# Altium integrated library TI Data Converters Analog to Digital Converter.IntLib: 2198 symbols (part 86 of 164)
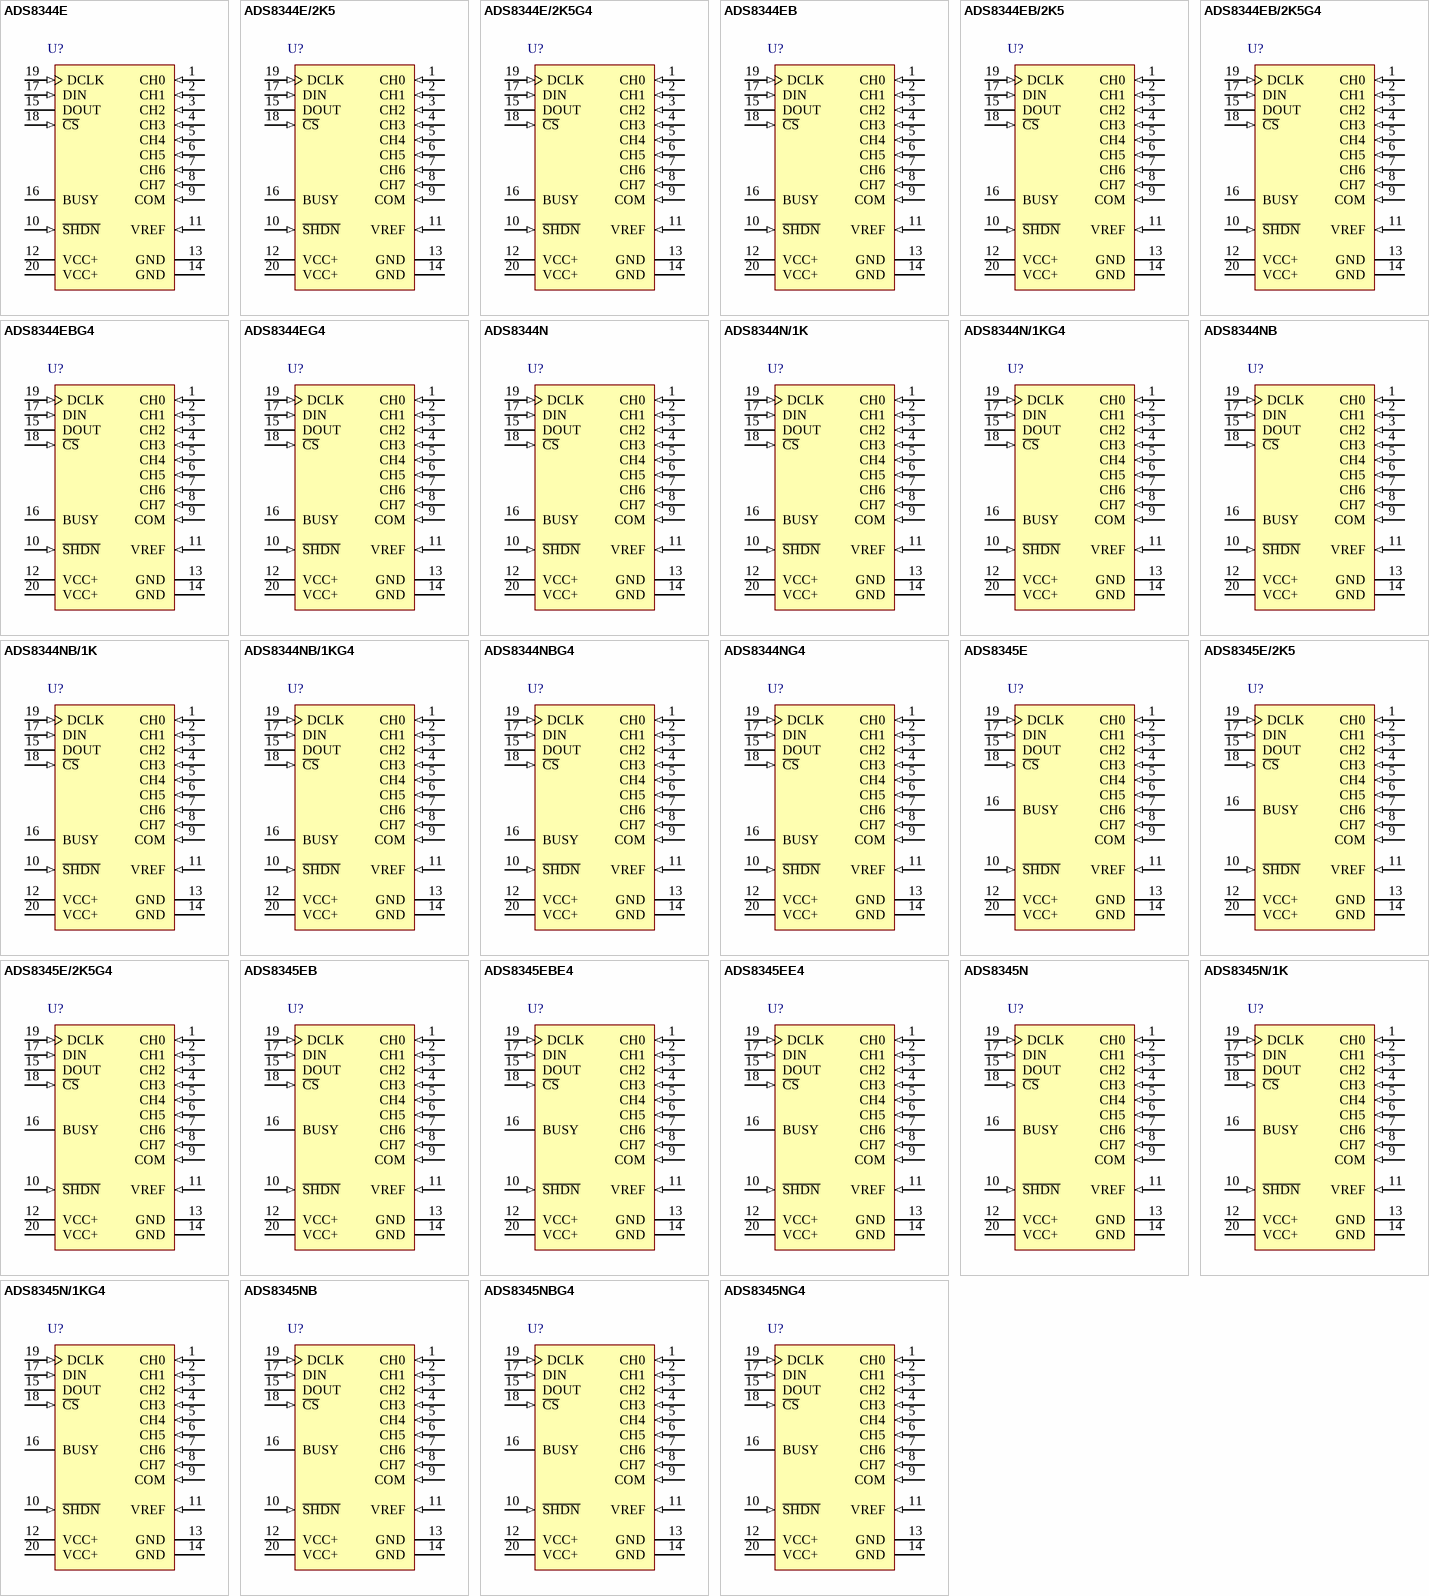
[diagram p211: symbols ADS8344E to ADS8345NG4]

## ADS8344EBG4
designator U?
16-Bit, 8-Channel Serial Output Sampling ADC, -40 to 85 degC, 20-pin SOP (DBQ20), Green (RoHS & no Sb/Br); Manufacturer: Texas Instruments; PartNumber: ADS8344EBG4; # Input Channels: 8; Analog Voltage AV/DD(Max)(V): 5.25; Analog Voltage AV/DD(Min)(V): 2.7; Architecture: SAR; INL(Max)(+/-LSB): 6; Interface: Serial SPI; Resolution(Bits): 16; Sample Rate (max)(SPS): 100k; SFDR(dB): 92; SINAD(dB): 86; SubFamily: Precision ADC (<=10MSPS); DatasheetVersion: SBAS139E; PackageVersion: 4073301-3/H, 10/2008; PackageReference: DBQ20; PackageDescription: 20-Pin Plastic Small Outline, Body 8.65 x 3.9 mm, Pitch 0.635 mm; Supplier 1: Digi-Key; Supplier Part Number 1: ADS7822UCG4-ND; Digital Supply(Max)(V): 5.25; Digital Supply(Min)(V): 2.7; Eco-Plan: Green (RoHS & no Sb/Br); Mounting Technology: Surface Mount; Code_JEDEC: MO-137; ComponentLink1Description: Manufacturer URL; ComponentLink1URL: http://www.ti.com/; ComponentLink2Description: Datasheet; ComponentLink2URL: http://www.ti.com/general/docs/lit/getliterature.tsp?genericPartNumber=ADS8344&fileType=pdf; ComponentLink3Description: Package Specification; ComponentLink3URL: http://www.ti.com/litv/pdf/mpds210a
footprint TI-DBQ20_N (SOP, 20-Leads, Body 8.65x3.9mm, Pitch 0.635mm, IPC Medium Density)
footprint TI-DBQ20_L (SOP, 20-Leads, Body 8.65x3.9mm, Pitch 0.635mm, IPC High Density)
footprint TI-DBQ20_M (SOP, 20-Leads, Body 8.65x3.9mm, Pitch 0.635mm, IPC Low Density)
pins: 1 CH0 (in) "Analog Input Channel 0", 2 CH1 (in) "Analog Input Channel 1", 3 CH2 (in) "Analog Input Channel 2", 4 CH3 (in) "Analog Input Channel 3", 5 CH4 (in) "Analog Input Channel 4", 6 CH5 (in) "Analog Input Channel 5", 7 CH6 (in) "Analog Input Channel 6", 8 CH7 (in) "Analog Input Channel 7", 9 COM (in) "Ground reference for analog inputs. Sets zero code voltage in single-ended mode. Connect this pin to ground or ground reference point.", 10 ~{SHDN} (in) "Shutdown. When LOW, the device enters a very low-power shutdown mode.", 11 VREF (in) "Voltage Reference Input. See Electrical Characteristics Table for ranges.", 12 VCC+ (power) "Power Supply, 2.7V to 5V", 13 GND (power) "Ground", 14 GND (power) "Ground", 15 DOUT (hiz) "Serial Data Output. Data is shifted on the falling edge of DCLK. This output is high impedance when C\S\ is HIGH.", 16 BUSY (hiz) "Busy Output. Busy goes LOW when the DIN control bits are being read and also when the device is converting. The Output is high impedance when C\S\ is HIGH.", 17 DIN (in) "Serial Data Input. If C\S\ is LOW, data is latched on rising edge of DCLK.", 18 ~{CS} (in) "Chip Select Input. Active LOW. Data will not be clocked into DIN unless C\S\ is LOW. When C\S\ is HIGH, DOUT is high impedance.", 19 DCLK (in) "External Clock Input. The clock speed determines the conversion rate by the equation fDCLK = 24 • fSAMPLE.", 20 VCC+ (power) "Power Supply"

## ADS8344EG4
designator U?
16-Bit, 8-Channel Serial Output Sampling ADC, -40 to 85 degC, 20-pin SOP (DBQ20), Green (RoHS & no Sb/Br); Manufacturer: Texas Instruments; PartNumber: ADS8344EG4; # Input Channels: 8; Analog Voltage AV/DD(Max)(V): 5.25; Analog Voltage AV/DD(Min)(V): 2.7; Architecture: SAR; INL(Max)(+/-LSB): 6; Interface: Serial SPI; Resolution(Bits): 16; Sample Rate (max)(SPS): 100k; SFDR(dB): 92; SINAD(dB): 86; SubFamily: Precision ADC (<=10MSPS); DatasheetVersion: SBAS139E; PackageVersion: 4073301-3/H, 10/2008; PackageReference: DBQ20; PackageDescription: 20-Pin Plastic Small Outline, Body 8.65 x 3.9 mm, Pitch 0.635 mm; Supplier 1: Digi-Key; Supplier Part Number 1: ADS7822UG4-ND; Digital Supply(Max)(V): 5.25; Digital Supply(Min)(V): 2.7; Eco-Plan: Green (RoHS & no Sb/Br); Mounting Technology: Surface Mount; Code_JEDEC: MO-137; ComponentLink1Description: Manufacturer URL; ComponentLink1URL: http://www.ti.com/; ComponentLink2Description: Datasheet; ComponentLink2URL: http://www.ti.com/general/docs/lit/getliterature.tsp?genericPartNumber=ADS8344&fileType=pdf; ComponentLink3Description: Package Specification; ComponentLink3URL: http://www.ti.com/litv/pdf/mpds210a
footprint TI-DBQ20_N (SOP, 20-Leads, Body 8.65x3.9mm, Pitch 0.635mm, IPC Medium Density)
footprint TI-DBQ20_L (SOP, 20-Leads, Body 8.65x3.9mm, Pitch 0.635mm, IPC High Density)
footprint TI-DBQ20_M (SOP, 20-Leads, Body 8.65x3.9mm, Pitch 0.635mm, IPC Low Density)
pins: 1 CH0 (in) "Analog Input Channel 0", 2 CH1 (in) "Analog Input Channel 1", 3 CH2 (in) "Analog Input Channel 2", 4 CH3 (in) "Analog Input Channel 3", 5 CH4 (in) "Analog Input Channel 4", 6 CH5 (in) "Analog Input Channel 5", 7 CH6 (in) "Analog Input Channel 6", 8 CH7 (in) "Analog Input Channel 7", 9 COM (in) "Ground reference for analog inputs. Sets zero code voltage in single-ended mode. Connect this pin to ground or ground reference point.", 10 ~{SHDN} (in) "Shutdown. When LOW, the device enters a very low-power shutdown mode.", 11 VREF (in) "Voltage Reference Input. See Electrical Characteristics Table for ranges.", 12 VCC+ (power) "Power Supply, 2.7V to 5V", 13 GND (power) "Ground", 14 GND (power) "Ground", 15 DOUT (hiz) "Serial Data Output. Data is shifted on the falling edge of DCLK. This output is high impedance when C\S\ is HIGH.", 16 BUSY (hiz) "Busy Output. Busy goes LOW when the DIN control bits are being read and also when the device is converting. The Output is high impedance when C\S\ is HIGH.", 17 DIN (in) "Serial Data Input. If C\S\ is LOW, data is latched on rising edge of DCLK.", 18 ~{CS} (in) "Chip Select Input. Active LOW. Data will not be clocked into DIN unless C\S\ is LOW. When C\S\ is HIGH, DOUT is high impedance.", 19 DCLK (in) "External Clock Input. The clock speed determines the conversion rate by the equation fDCLK = 24 • fSAMPLE.", 20 VCC+ (power) "Power Supply"

## ADS8344N
designator U?
16-Bit, 8-Channel Serial Output Sampling ADC, -40 to 85 degC, 20-pin SOP (DB20), Green (RoHS & no Sb/Br); Manufacturer: Texas Instruments; PartNumber: ADS8344N; # Input Channels: 8; Analog Voltage AV/DD(Max)(V): 5.25; Analog Voltage AV/DD(Min)(V): 2.7; Architecture: SAR; INL(Max)(+/-LSB): 6; Interface: Serial SPI; Resolution(Bits): 16; Sample Rate (max)(SPS): 100k; SFDR(dB): 92; SINAD(dB): 86; SubFamily: Precision ADC (<=10MSPS); DatasheetVersion: SBAS139E; PackageVersion: 4040065/E, 12/2001; PackageReference: DB20; PackageDescription: 20-Pin Plastic Small Outline, Body 5.3 x 7.2 mm, Pitch 0.65 mm; Supplier 1: Digi-Key; Supplier Part Number 1: ADS7817ETR-ND; Digital Supply(Max)(V): 5.25; Digital Supply(Min)(V): 2.7; Eco-Plan: Green (RoHS & no Sb/Br); Mounting Technology: Surface Mount; Code_JEDEC: MO-150; ComponentLink1Description: Manufacturer URL; ComponentLink1URL: http://www.ti.com/; ComponentLink2Description: Datasheet; ComponentLink2URL: http://www.ti.com/general/docs/lit/getliterature.tsp?genericPartNumber=ADS8344&fileType=pdf; ComponentLink3Description: Package Specification; ComponentLink3URL: http://www.ti.com/lit/ml/msso002e/msso002e.pdf
footprint TI-DB20_N (SOP, 20-Leads, Body 7.2x5.3mm, Pitch 0.65mm, IPC Medium Density)
footprint TI-DB20_L (SOP, 20-Leads, Body 7.2x5.3mm, Pitch 0.65mm, IPC High Density)
footprint TI-DB20_M (SOP, 20-Leads, Body 7.2x5.3mm, Pitch 0.65mm, IPC Low Density)
pins: 1 CH0 (in) "Analog Input Channel 0", 2 CH1 (in) "Analog Input Channel 1", 3 CH2 (in) "Analog Input Channel 2", 4 CH3 (in) "Analog Input Channel 3", 5 CH4 (in) "Analog Input Channel 4", 6 CH5 (in) "Analog Input Channel 5", 7 CH6 (in) "Analog Input Channel 6", 8 CH7 (in) "Analog Input Channel 7", 9 COM (in) "Ground reference for analog inputs. Sets zero code voltage in single-ended mode. Connect this pin to ground or ground reference point.", 10 ~{SHDN} (in) "Shutdown. When LOW, the device enters a very low-power shutdown mode.", 11 VREF (in) "Voltage Reference Input. See Electrical Characteristics Table for ranges.", 12 VCC+ (power) "Power Supply, 2.7V to 5V", 13 GND (power) "Ground", 14 GND (power) "Ground", 15 DOUT (hiz) "Serial Data Output. Data is shifted on the falling edge of DCLK. This output is high impedance when C\S\ is HIGH.", 16 BUSY (hiz) "Busy Output. Busy goes LOW when the DIN control bits are being read and also when the device is converting. The Output is high impedance when C\S\ is HIGH.", 17 DIN (in) "Serial Data Input. If C\S\ is LOW, data is latched on rising edge of DCLK.", 18 ~{CS} (in) "Chip Select Input. Active LOW. Data will not be clocked into DIN unless C\S\ is LOW. When C\S\ is HIGH, DOUT is high impedance.", 19 DCLK (in) "External Clock Input. The clock speed determines the conversion rate by the equation fDCLK = 24 • fSAMPLE.", 20 VCC+ (power) "Power Supply"

## ADS8344N/1K
designator U?
16-Bit, 8-Channel Serial Output Sampling ADC, -40 to 85 degC, 20-pin SOP (DB20), Green (RoHS & no Sb/Br); Manufacturer: Texas Instruments; PartNumber: ADS8344N/1K; # Input Channels: 8; Analog Voltage AV/DD(Max)(V): 5.25; Analog Voltage AV/DD(Min)(V): 2.7; Architecture: SAR; INL(Max)(+/-LSB): 6; Interface: Serial SPI; Resolution(Bits): 16; Sample Rate (max)(SPS): 100k; SFDR(dB): 92; SINAD(dB): 86; SubFamily: Precision ADC (<=10MSPS); DatasheetVersion: SBAS139E; PackageVersion: 4040065/E, 12/2001; PackageReference: DB20; PackageDescription: 20-Pin Plastic Small Outline, Body 5.3 x 7.2 mm, Pitch 0.65 mm; Supplier 1: Digi-Key; Supplier Part Number 1: ADS7817E/250G4-ND; Digital Supply(Max)(V): 5.25; Digital Supply(Min)(V): 2.7; Eco-Plan: Green (RoHS & no Sb/Br); Mounting Technology: Surface Mount; Code_JEDEC: MO-150; ComponentLink1Description: Manufacturer URL; ComponentLink1URL: http://www.ti.com/; ComponentLink2Description: Datasheet; ComponentLink2URL: http://www.ti.com/general/docs/lit/getliterature.tsp?genericPartNumber=ADS8344&fileType=pdf; ComponentLink3Description: Package Specification; ComponentLink3URL: http://www.ti.com/lit/ml/msso002e/msso002e.pdf
footprint TI-DB20_N (SOP, 20-Leads, Body 7.2x5.3mm, Pitch 0.65mm, IPC Medium Density)
footprint TI-DB20_L (SOP, 20-Leads, Body 7.2x5.3mm, Pitch 0.65mm, IPC High Density)
footprint TI-DB20_M (SOP, 20-Leads, Body 7.2x5.3mm, Pitch 0.65mm, IPC Low Density)
pins: 1 CH0 (in) "Analog Input Channel 0", 2 CH1 (in) "Analog Input Channel 1", 3 CH2 (in) "Analog Input Channel 2", 4 CH3 (in) "Analog Input Channel 3", 5 CH4 (in) "Analog Input Channel 4", 6 CH5 (in) "Analog Input Channel 5", 7 CH6 (in) "Analog Input Channel 6", 8 CH7 (in) "Analog Input Channel 7", 9 COM (in) "Ground reference for analog inputs. Sets zero code voltage in single-ended mode. Connect this pin to ground or ground reference point.", 10 ~{SHDN} (in) "Shutdown. When LOW, the device enters a very low-power shutdown mode.", 11 VREF (in) "Voltage Reference Input. See Electrical Characteristics Table for ranges.", 12 VCC+ (power) "Power Supply, 2.7V to 5V", 13 GND (power) "Ground", 14 GND (power) "Ground", 15 DOUT (hiz) "Serial Data Output. Data is shifted on the falling edge of DCLK. This output is high impedance when C\S\ is HIGH.", 16 BUSY (hiz) "Busy Output. Busy goes LOW when the DIN control bits are being read and also when the device is converting. The Output is high impedance when C\S\ is HIGH.", 17 DIN (in) "Serial Data Input. If C\S\ is LOW, data is latched on rising edge of DCLK.", 18 ~{CS} (in) "Chip Select Input. Active LOW. Data will not be clocked into DIN unless C\S\ is LOW. When C\S\ is HIGH, DOUT is high impedance.", 19 DCLK (in) "External Clock Input. The clock speed determines the conversion rate by the equation fDCLK = 24 • fSAMPLE.", 20 VCC+ (power) "Power Supply"

## ADS8344N/1KG4
designator U?
16-Bit, 8-Channel Serial Output Sampling ADC, -40 to 85 degC, 20-pin SOP (DB20), Green (RoHS & no Sb/Br); Manufacturer: Texas Instruments; PartNumber: ADS8344N/1KG4; # Input Channels: 8; Analog Voltage AV/DD(Max)(V): 5.25; Analog Voltage AV/DD(Min)(V): 2.7; Architecture: SAR; INL(Max)(+/-LSB): 6; Interface: Serial SPI; Resolution(Bits): 16; Sample Rate (max)(SPS): 100k; SFDR(dB): 92; SINAD(dB): 86; SubFamily: Precision ADC (<=10MSPS); DatasheetVersion: SBAS139E; PackageVersion: 4040065/E, 12/2001; PackageReference: DB20; PackageDescription: 20-Pin Plastic Small Outline, Body 5.3 x 7.2 mm, Pitch 0.65 mm; Supplier 1: Digi-Key; Supplier Part Number 1: ADS7817E/2K5-ND; Digital Supply(Max)(V): 5.25; Digital Supply(Min)(V): 2.7; Eco-Plan: Green (RoHS & no Sb/Br); Mounting Technology: Surface Mount; Code_JEDEC: MO-150; ComponentLink1Description: Manufacturer URL; ComponentLink1URL: http://www.ti.com/; ComponentLink2Description: Datasheet; ComponentLink2URL: http://www.ti.com/general/docs/lit/getliterature.tsp?genericPartNumber=ADS8344&fileType=pdf; ComponentLink3Description: Package Specification; ComponentLink3URL: http://www.ti.com/lit/ml/msso002e/msso002e.pdf
footprint TI-DB20_N (SOP, 20-Leads, Body 7.2x5.3mm, Pitch 0.65mm, IPC Medium Density)
footprint TI-DB20_L (SOP, 20-Leads, Body 7.2x5.3mm, Pitch 0.65mm, IPC High Density)
footprint TI-DB20_M (SOP, 20-Leads, Body 7.2x5.3mm, Pitch 0.65mm, IPC Low Density)
pins: 1 CH0 (in) "Analog Input Channel 0", 2 CH1 (in) "Analog Input Channel 1", 3 CH2 (in) "Analog Input Channel 2", 4 CH3 (in) "Analog Input Channel 3", 5 CH4 (in) "Analog Input Channel 4", 6 CH5 (in) "Analog Input Channel 5", 7 CH6 (in) "Analog Input Channel 6", 8 CH7 (in) "Analog Input Channel 7", 9 COM (in) "Ground reference for analog inputs. Sets zero code voltage in single-ended mode. Connect this pin to ground or ground reference point.", 10 ~{SHDN} (in) "Shutdown. When LOW, the device enters a very low-power shutdown mode.", 11 VREF (in) "Voltage Reference Input. See Electrical Characteristics Table for ranges.", 12 VCC+ (power) "Power Supply, 2.7V to 5V", 13 GND (power) "Ground", 14 GND (power) "Ground", 15 DOUT (hiz) "Serial Data Output. Data is shifted on the falling edge of DCLK. This output is high impedance when C\S\ is HIGH.", 16 BUSY (hiz) "Busy Output. Busy goes LOW when the DIN control bits are being read and also when the device is converting. The Output is high impedance when C\S\ is HIGH.", 17 DIN (in) "Serial Data Input. If C\S\ is LOW, data is latched on rising edge of DCLK.", 18 ~{CS} (in) "Chip Select Input. Active LOW. Data will not be clocked into DIN unless C\S\ is LOW. When C\S\ is HIGH, DOUT is high impedance.", 19 DCLK (in) "External Clock Input. The clock speed determines the conversion rate by the equation fDCLK = 24 • fSAMPLE.", 20 VCC+ (power) "Power Supply"

## ADS8344NB
designator U?
16-Bit, 8-Channel Serial Output Sampling ADC, -40 to 85 degC, 20-pin SOP (DB20), Green (RoHS & no Sb/Br); Manufacturer: Texas Instruments; PartNumber: ADS8344NB; # Input Channels: 8; Analog Voltage AV/DD(Max)(V): 5.25; Analog Voltage AV/DD(Min)(V): 2.7; Architecture: SAR; INL(Max)(+/-LSB): 6; Interface: Serial SPI; Resolution(Bits): 16; Sample Rate (max)(SPS): 100k; SFDR(dB): 92; SINAD(dB): 86; SubFamily: Precision ADC (<=10MSPS); DatasheetVersion: SBAS139E; PackageVersion: 4040065/E, 12/2001; PackageReference: DB20; PackageDescription: 20-Pin Plastic Small Outline, Body 5.3 x 7.2 mm, Pitch 0.65 mm; Supplier 1: Digi-Key; Supplier Part Number 1: ADS7817E/2K5G4-ND; Digital Supply(Max)(V): 5.25; Digital Supply(Min)(V): 2.7; Eco-Plan: Green (RoHS & no Sb/Br); Mounting Technology: Surface Mount; Code_JEDEC: MO-150; ComponentLink1Description: Manufacturer URL; ComponentLink1URL: http://www.ti.com/; ComponentLink2Description: Datasheet; ComponentLink2URL: http://www.ti.com/general/docs/lit/getliterature.tsp?genericPartNumber=ADS8344&fileType=pdf; ComponentLink3Description: Package Specification; ComponentLink3URL: http://www.ti.com/lit/ml/msso002e/msso002e.pdf
footprint TI-DB20_N (SOP, 20-Leads, Body 7.2x5.3mm, Pitch 0.65mm, IPC Medium Density)
footprint TI-DB20_L (SOP, 20-Leads, Body 7.2x5.3mm, Pitch 0.65mm, IPC High Density)
footprint TI-DB20_M (SOP, 20-Leads, Body 7.2x5.3mm, Pitch 0.65mm, IPC Low Density)
pins: 1 CH0 (in) "Analog Input Channel 0", 2 CH1 (in) "Analog Input Channel 1", 3 CH2 (in) "Analog Input Channel 2", 4 CH3 (in) "Analog Input Channel 3", 5 CH4 (in) "Analog Input Channel 4", 6 CH5 (in) "Analog Input Channel 5", 7 CH6 (in) "Analog Input Channel 6", 8 CH7 (in) "Analog Input Channel 7", 9 COM (in) "Ground reference for analog inputs. Sets zero code voltage in single-ended mode. Connect this pin to ground or ground reference point.", 10 ~{SHDN} (in) "Shutdown. When LOW, the device enters a very low-power shutdown mode.", 11 VREF (in) "Voltage Reference Input. See Electrical Characteristics Table for ranges.", 12 VCC+ (power) "Power Supply, 2.7V to 5V", 13 GND (power) "Ground", 14 GND (power) "Ground", 15 DOUT (hiz) "Serial Data Output. Data is shifted on the falling edge of DCLK. This output is high impedance when C\S\ is HIGH.", 16 BUSY (hiz) "Busy Output. Busy goes LOW when the DIN control bits are being read and also when the device is converting. The Output is high impedance when C\S\ is HIGH.", 17 DIN (in) "Serial Data Input. If C\S\ is LOW, data is latched on rising edge of DCLK.", 18 ~{CS} (in) "Chip Select Input. Active LOW. Data will not be clocked into DIN unless C\S\ is LOW. When C\S\ is HIGH, DOUT is high impedance.", 19 DCLK (in) "External Clock Input. The clock speed determines the conversion rate by the equation fDCLK = 24 • fSAMPLE.", 20 VCC+ (power) "Power Supply"

## ADS8344NB/1K
designator U?
16-Bit, 8-Channel Serial Output Sampling ADC, -40 to 85 degC, 20-pin SOP (DB20), Green (RoHS & no Sb/Br); Manufacturer: Texas Instruments; PartNumber: ADS8344NB/1K; # Input Channels: 8; Analog Voltage AV/DD(Max)(V): 5.25; Analog Voltage AV/DD(Min)(V): 2.7; Architecture: SAR; INL(Max)(+/-LSB): 6; Interface: Serial SPI; Resolution(Bits): 16; Sample Rate (max)(SPS): 100k; SFDR(dB): 92; SINAD(dB): 86; SubFamily: Precision ADC (<=10MSPS); DatasheetVersion: SBAS139E; PackageVersion: 4040065/E, 12/2001; PackageReference: DB20; PackageDescription: 20-Pin Plastic Small Outline, Body 5.3 x 7.2 mm, Pitch 0.65 mm; Supplier 1: Digi-Key; Supplier Part Number 1: ADS7817EBTR-ND; Digital Supply(Max)(V): 5.25; Digital Supply(Min)(V): 2.7; Eco-Plan: Green (RoHS & no Sb/Br); Mounting Technology: Surface Mount; Code_JEDEC: MO-150; ComponentLink1Description: Manufacturer URL; ComponentLink1URL: http://www.ti.com/; ComponentLink2Description: Datasheet; ComponentLink2URL: http://www.ti.com/general/docs/lit/getliterature.tsp?genericPartNumber=ADS8344&fileType=pdf; ComponentLink3Description: Package Specification; ComponentLink3URL: http://www.ti.com/lit/ml/msso002e/msso002e.pdf
footprint TI-DB20_N (SOP, 20-Leads, Body 7.2x5.3mm, Pitch 0.65mm, IPC Medium Density)
footprint TI-DB20_L (SOP, 20-Leads, Body 7.2x5.3mm, Pitch 0.65mm, IPC High Density)
footprint TI-DB20_M (SOP, 20-Leads, Body 7.2x5.3mm, Pitch 0.65mm, IPC Low Density)
pins: 1 CH0 (in) "Analog Input Channel 0", 2 CH1 (in) "Analog Input Channel 1", 3 CH2 (in) "Analog Input Channel 2", 4 CH3 (in) "Analog Input Channel 3", 5 CH4 (in) "Analog Input Channel 4", 6 CH5 (in) "Analog Input Channel 5", 7 CH6 (in) "Analog Input Channel 6", 8 CH7 (in) "Analog Input Channel 7", 9 COM (in) "Ground reference for analog inputs. Sets zero code voltage in single-ended mode. Connect this pin to ground or ground reference point.", 10 ~{SHDN} (in) "Shutdown. When LOW, the device enters a very low-power shutdown mode.", 11 VREF (in) "Voltage Reference Input. See Electrical Characteristics Table for ranges.", 12 VCC+ (power) "Power Supply, 2.7V to 5V", 13 GND (power) "Ground", 14 GND (power) "Ground", 15 DOUT (hiz) "Serial Data Output. Data is shifted on the falling edge of DCLK. This output is high impedance when C\S\ is HIGH.", 16 BUSY (hiz) "Busy Output. Busy goes LOW when the DIN control bits are being read and also when the device is converting. The Output is high impedance when C\S\ is HIGH.", 17 DIN (in) "Serial Data Input. If C\S\ is LOW, data is latched on rising edge of DCLK.", 18 ~{CS} (in) "Chip Select Input. Active LOW. Data will not be clocked into DIN unless C\S\ is LOW. When C\S\ is HIGH, DOUT is high impedance.", 19 DCLK (in) "External Clock Input. The clock speed determines the conversion rate by the equation fDCLK = 24 • fSAMPLE.", 20 VCC+ (power) "Power Supply"

## ADS8344NB/1KG4
designator U?
16-Bit, 8-Channel Serial Output Sampling ADC, -40 to 85 degC, 20-pin SOP (DB20), Green (RoHS & no Sb/Br); Manufacturer: Texas Instruments; PartNumber: ADS8344NB/1KG4; # Input Channels: 8; Analog Voltage AV/DD(Max)(V): 5.25; Analog Voltage AV/DD(Min)(V): 2.7; Architecture: SAR; INL(Max)(+/-LSB): 6; Interface: Serial SPI; Resolution(Bits): 16; Sample Rate (max)(SPS): 100k; SFDR(dB): 92; SINAD(dB): 86; SubFamily: Precision ADC (<=10MSPS); DatasheetVersion: SBAS139E; PackageVersion: 4040065/E, 12/2001; PackageReference: DB20; PackageDescription: 20-Pin Plastic Small Outline, Body 5.3 x 7.2 mm, Pitch 0.65 mm; Supplier 1: Digi-Key; Supplier Part Number 1: ADS7817EB/250G4-ND; Digital Supply(Max)(V): 5.25; Digital Supply(Min)(V): 2.7; Eco-Plan: Green (RoHS & no Sb/Br); Mounting Technology: Surface Mount; Code_JEDEC: MO-150; ComponentLink1Description: Manufacturer URL; ComponentLink1URL: http://www.ti.com/; ComponentLink2Description: Datasheet; ComponentLink2URL: http://www.ti.com/general/docs/lit/getliterature.tsp?genericPartNumber=ADS8344&fileType=pdf; ComponentLink3Description: Package Specification; ComponentLink3URL: http://www.ti.com/lit/ml/msso002e/msso002e.pdf
footprint TI-DB20_N (SOP, 20-Leads, Body 7.2x5.3mm, Pitch 0.65mm, IPC Medium Density)
footprint TI-DB20_L (SOP, 20-Leads, Body 7.2x5.3mm, Pitch 0.65mm, IPC High Density)
footprint TI-DB20_M (SOP, 20-Leads, Body 7.2x5.3mm, Pitch 0.65mm, IPC Low Density)
pins: 1 CH0 (in) "Analog Input Channel 0", 2 CH1 (in) "Analog Input Channel 1", 3 CH2 (in) "Analog Input Channel 2", 4 CH3 (in) "Analog Input Channel 3", 5 CH4 (in) "Analog Input Channel 4", 6 CH5 (in) "Analog Input Channel 5", 7 CH6 (in) "Analog Input Channel 6", 8 CH7 (in) "Analog Input Channel 7", 9 COM (in) "Ground reference for analog inputs. Sets zero code voltage in single-ended mode. Connect this pin to ground or ground reference point.", 10 ~{SHDN} (in) "Shutdown. When LOW, the device enters a very low-power shutdown mode.", 11 VREF (in) "Voltage Reference Input. See Electrical Characteristics Table for ranges.", 12 VCC+ (power) "Power Supply, 2.7V to 5V", 13 GND (power) "Ground", 14 GND (power) "Ground", 15 DOUT (hiz) "Serial Data Output. Data is shifted on the falling edge of DCLK. This output is high impedance when C\S\ is HIGH.", 16 BUSY (hiz) "Busy Output. Busy goes LOW when the DIN control bits are being read and also when the device is converting. The Output is high impedance when C\S\ is HIGH.", 17 DIN (in) "Serial Data Input. If C\S\ is LOW, data is latched on rising edge of DCLK.", 18 ~{CS} (in) "Chip Select Input. Active LOW. Data will not be clocked into DIN unless C\S\ is LOW. When C\S\ is HIGH, DOUT is high impedance.", 19 DCLK (in) "External Clock Input. The clock speed determines the conversion rate by the equation fDCLK = 24 • fSAMPLE.", 20 VCC+ (power) "Power Supply"

## ADS8344NBG4
designator U?
16-Bit, 8-Channel Serial Output Sampling ADC, -40 to 85 degC, 20-pin SOP (DB20), Green (RoHS & no Sb/Br); Manufacturer: Texas Instruments; PartNumber: ADS8344NBG4; # Input Channels: 8; Analog Voltage AV/DD(Max)(V): 5.25; Analog Voltage AV/DD(Min)(V): 2.7; Architecture: SAR; INL(Max)(+/-LSB): 6; Interface: Serial SPI; Resolution(Bits): 16; Sample Rate (max)(SPS): 100k; SFDR(dB): 92; SINAD(dB): 86; SubFamily: Precision ADC (<=10MSPS); DatasheetVersion: SBAS139E; PackageVersion: 4040065/E, 12/2001; PackageReference: DB20; PackageDescription: 20-Pin Plastic Small Outline, Body 5.3 x 7.2 mm, Pitch 0.65 mm; Supplier 1: Digi-Key; Supplier Part Number 1: ADS7817EB/2K5-ND; Digital Supply(Max)(V): 5.25; Digital Supply(Min)(V): 2.7; Eco-Plan: Green (RoHS & no Sb/Br); Mounting Technology: Surface Mount; Code_JEDEC: MO-150; ComponentLink1Description: Manufacturer URL; ComponentLink1URL: http://www.ti.com/; ComponentLink2Description: Datasheet; ComponentLink2URL: http://www.ti.com/general/docs/lit/getliterature.tsp?genericPartNumber=ADS8344&fileType=pdf; ComponentLink3Description: Package Specification; ComponentLink3URL: http://www.ti.com/lit/ml/msso002e/msso002e.pdf
footprint TI-DB20_N (SOP, 20-Leads, Body 7.2x5.3mm, Pitch 0.65mm, IPC Medium Density)
footprint TI-DB20_L (SOP, 20-Leads, Body 7.2x5.3mm, Pitch 0.65mm, IPC High Density)
footprint TI-DB20_M (SOP, 20-Leads, Body 7.2x5.3mm, Pitch 0.65mm, IPC Low Density)
pins: 1 CH0 (in) "Analog Input Channel 0", 2 CH1 (in) "Analog Input Channel 1", 3 CH2 (in) "Analog Input Channel 2", 4 CH3 (in) "Analog Input Channel 3", 5 CH4 (in) "Analog Input Channel 4", 6 CH5 (in) "Analog Input Channel 5", 7 CH6 (in) "Analog Input Channel 6", 8 CH7 (in) "Analog Input Channel 7", 9 COM (in) "Ground reference for analog inputs. Sets zero code voltage in single-ended mode. Connect this pin to ground or ground reference point.", 10 ~{SHDN} (in) "Shutdown. When LOW, the device enters a very low-power shutdown mode.", 11 VREF (in) "Voltage Reference Input. See Electrical Characteristics Table for ranges.", 12 VCC+ (power) "Power Supply, 2.7V to 5V", 13 GND (power) "Ground", 14 GND (power) "Ground", 15 DOUT (hiz) "Serial Data Output. Data is shifted on the falling edge of DCLK. This output is high impedance when C\S\ is HIGH.", 16 BUSY (hiz) "Busy Output. Busy goes LOW when the DIN control bits are being read and also when the device is converting. The Output is high impedance when C\S\ is HIGH.", 17 DIN (in) "Serial Data Input. If C\S\ is LOW, data is latched on rising edge of DCLK.", 18 ~{CS} (in) "Chip Select Input. Active LOW. Data will not be clocked into DIN unless C\S\ is LOW. When C\S\ is HIGH, DOUT is high impedance.", 19 DCLK (in) "External Clock Input. The clock speed determines the conversion rate by the equation fDCLK = 24 • fSAMPLE.", 20 VCC+ (power) "Power Supply"

## ADS8344NG4
designator U?
16-Bit, 8-Channel Serial Output Sampling ADC, -40 to 85 degC, 20-pin SOP (DB20), Green (RoHS & no Sb/Br); Manufacturer: Texas Instruments; PartNumber: ADS8344NG4; # Input Channels: 8; Analog Voltage AV/DD(Max)(V): 5.25; Analog Voltage AV/DD(Min)(V): 2.7; Architecture: SAR; INL(Max)(+/-LSB): 6; Interface: Serial SPI; Resolution(Bits): 16; Sample Rate (max)(SPS): 100k; SFDR(dB): 92; SINAD(dB): 86; SubFamily: Precision ADC (<=10MSPS); DatasheetVersion: SBAS139E; PackageVersion: 4040065/E, 12/2001; PackageReference: DB20; PackageDescription: 20-Pin Plastic Small Outline, Body 5.3 x 7.2 mm, Pitch 0.65 mm; Supplier 1: Digi-Key; Supplier Part Number 1: ADS7817EB/2K5G4-ND; Digital Supply(Max)(V): 5.25; Digital Supply(Min)(V): 2.7; Eco-Plan: Green (RoHS & no Sb/Br); Mounting Technology: Surface Mount; Code_JEDEC: MO-150; ComponentLink1Description: Manufacturer URL; ComponentLink1URL: http://www.ti.com/; ComponentLink2Description: Datasheet; ComponentLink2URL: http://www.ti.com/general/docs/lit/getliterature.tsp?genericPartNumber=ADS8344&fileType=pdf; ComponentLink3Description: Package Specification; ComponentLink3URL: http://www.ti.com/lit/ml/msso002e/msso002e.pdf
footprint TI-DB20_N (SOP, 20-Leads, Body 7.2x5.3mm, Pitch 0.65mm, IPC Medium Density)
footprint TI-DB20_L (SOP, 20-Leads, Body 7.2x5.3mm, Pitch 0.65mm, IPC High Density)
footprint TI-DB20_M (SOP, 20-Leads, Body 7.2x5.3mm, Pitch 0.65mm, IPC Low Density)
pins: 1 CH0 (in) "Analog Input Channel 0", 2 CH1 (in) "Analog Input Channel 1", 3 CH2 (in) "Analog Input Channel 2", 4 CH3 (in) "Analog Input Channel 3", 5 CH4 (in) "Analog Input Channel 4", 6 CH5 (in) "Analog Input Channel 5", 7 CH6 (in) "Analog Input Channel 6", 8 CH7 (in) "Analog Input Channel 7", 9 COM (in) "Ground reference for analog inputs. Sets zero code voltage in single-ended mode. Connect this pin to ground or ground reference point.", 10 ~{SHDN} (in) "Shutdown. When LOW, the device enters a very low-power shutdown mode.", 11 VREF (in) "Voltage Reference Input. See Electrical Characteristics Table for ranges.", 12 VCC+ (power) "Power Supply, 2.7V to 5V", 13 GND (power) "Ground", 14 GND (power) "Ground", 15 DOUT (hiz) "Serial Data Output. Data is shifted on the falling edge of DCLK. This output is high impedance when C\S\ is HIGH.", 16 BUSY (hiz) "Busy Output. Busy goes LOW when the DIN control bits are being read and also when the device is converting. The Output is high impedance when C\S\ is HIGH.", 17 DIN (in) "Serial Data Input. If C\S\ is LOW, data is latched on rising edge of DCLK.", 18 ~{CS} (in) "Chip Select Input. Active LOW. Data will not be clocked into DIN unless C\S\ is LOW. When C\S\ is HIGH, DOUT is high impedance.", 19 DCLK (in) "External Clock Input. The clock speed determines the conversion rate by the equation fDCLK = 24 • fSAMPLE.", 20 VCC+ (power) "Power Supply"

## ADS8345E
designator U?
16-Bit, 8-Channel Serial Output Sampling ADC, -40 to 85 degC, 20-pin SOP (DBQ20), Green (RoHS & no Sb/Br); Manufacturer: Texas Instruments; PartNumber: ADS8345E; # Input Channels: 8; Analog Voltage AV/DD(Max)(V): 5.25; Analog Voltage AV/DD(Min)(V): 2.7; Architecture: SAR; ENOB(Bits): 14; Interface: Serial SPI; Resolution(Bits): 16; Sample Rate (max)(SPS): 100k; SFDR(dB): 95; SINAD(dB): 85; SNR(dB): 81; SubFamily: Precision ADC (<=10MSPS); DatasheetVersion: SBAS177C; PackageVersion: 4073301-3/H, 10/2008; PackageReference: DBQ20; PackageDescription: 20-Pin Plastic Small Outline, Body 8.65 x 3.9 mm, Pitch 0.635 mm; Supplier 1: Digi-Key; Supplier Part Number 1: ADS7817ECTR-ND; Digital Supply(Max)(V): 5.25; Digital Supply(Min)(V): 2.7; Eco-Plan: Green (RoHS & no Sb/Br); INL(Max)(+/-LSB): 8; Mounting Technology: Surface Mount; Code_JEDEC: MO-137; ComponentLink1Description: Manufacturer URL; ComponentLink1URL: http://www.ti.com/; ComponentLink2Description: Datasheet; ComponentLink2URL: http://www.ti.com/general/docs/lit/getliterature.tsp?genericPartNumber=ADS8345&fileType=pdf; ComponentLink3Description: Package Specification; ComponentLink3URL: http://www.ti.com/litv/pdf/mpds210a
footprint TI-DBQ20_N (SOP, 20-Leads, Body 8.65x3.9mm, Pitch 0.635mm, IPC Medium Density)
footprint TI-DBQ20_L (SOP, 20-Leads, Body 8.65x3.9mm, Pitch 0.635mm, IPC High Density)
footprint TI-DBQ20_M (SOP, 20-Leads, Body 8.65x3.9mm, Pitch 0.635mm, IPC Low Density)
pins: 1 CH0 (in) "Analog Input Channel 0", 2 CH1 (in) "Analog Input Channel 1", 3 CH2 (in) "Analog Input Channel 2", 4 CH3 (in) "Analog Input Channel 3", 5 CH4 (in) "Analog Input Channel 4", 6 CH5 (in) "Analog Input Channel 5", 7 CH6 (in) "Analog Input Channel 6", 8 CH7 (in) "Analog Input Channel 7", 9 COM (in) "Common reference for analog inputs. This pin is typically connected to VREF.", 10 ~{SHDN} (in) "Shutdown. When LOW, the device enters a very low-power shutdown mode.", 11 VREF (in) "Voltage Reference Input. See the Electrical Characteristics Table for ranges.", 12 VCC+ (power) "Power Supply, 2.7V to 5.25V", 13 GND (power) "Ground", 14 GND (power) "Ground", 15 DOUT (hiz) "Serial Data Output. Data is shifted on the falling edge of DCLK. This output is high impedance when C\S\ is HIGH.", 16 BUSY (hiz) "Busy Output. Busy goes LOW when the DIN control bits are being read and also when the device is converting. The Output is high impedance when C\S\ is HIGH.", 17 DIN (in) "Serial Data Input. If C\S\ is LOW, data is latched on rising edge of DCLK.", 18 ~{CS} (in) "Chip Select Input; Active LOW. Data will not be clocked into DIN unless C\S\ is LOW. When C\S\ is HIGH, DOUT is high impedance.", 19 DCLK (in) "External Clock Input. The clock speed determines the conversion rate by the equation fDCLK = 24 x fSAMPLE.", 20 VCC+ (power) "Power Supply"

## ADS8345E/2K5
designator U?
16-Bit, 8-Channel Serial Output Sampling ADC, -40 to 85 degC, 20-pin SOP (DBQ20), Green (RoHS & no Sb/Br); Manufacturer: Texas Instruments; PartNumber: ADS8345E/2K5; # Input Channels: 8; Analog Voltage AV/DD(Max)(V): 5.25; Analog Voltage AV/DD(Min)(V): 2.7; Architecture: SAR; ENOB(Bits): 14; Interface: Serial SPI; Resolution(Bits): 16; Sample Rate (max)(SPS): 100k; SFDR(dB): 95; SINAD(dB): 85; SNR(dB): 81; SubFamily: Precision ADC (<=10MSPS); DatasheetVersion: SBAS177C; PackageVersion: 4073301-3/H, 10/2008; PackageReference: DBQ20; PackageDescription: 20-Pin Plastic Small Outline, Body 8.65 x 3.9 mm, Pitch 0.635 mm; Supplier 1: Digi-Key; Supplier Part Number 1: ADS7817EC/250G4-ND; Digital Supply(Max)(V): 5.25; Digital Supply(Min)(V): 2.7; Eco-Plan: Green (RoHS & no Sb/Br); INL(Max)(+/-LSB): 8; Mounting Technology: Surface Mount; Code_JEDEC: MO-137; ComponentLink1Description: Manufacturer URL; ComponentLink1URL: http://www.ti.com/; ComponentLink2Description: Datasheet; ComponentLink2URL: http://www.ti.com/general/docs/lit/getliterature.tsp?genericPartNumber=ADS8345&fileType=pdf; ComponentLink3Description: Package Specification; ComponentLink3URL: http://www.ti.com/litv/pdf/mpds210a
footprint TI-DBQ20_N (SOP, 20-Leads, Body 8.65x3.9mm, Pitch 0.635mm, IPC Medium Density)
footprint TI-DBQ20_L (SOP, 20-Leads, Body 8.65x3.9mm, Pitch 0.635mm, IPC High Density)
footprint TI-DBQ20_M (SOP, 20-Leads, Body 8.65x3.9mm, Pitch 0.635mm, IPC Low Density)
pins: 1 CH0 (in) "Analog Input Channel 0", 2 CH1 (in) "Analog Input Channel 1", 3 CH2 (in) "Analog Input Channel 2", 4 CH3 (in) "Analog Input Channel 3", 5 CH4 (in) "Analog Input Channel 4", 6 CH5 (in) "Analog Input Channel 5", 7 CH6 (in) "Analog Input Channel 6", 8 CH7 (in) "Analog Input Channel 7", 9 COM (in) "Common reference for analog inputs. This pin is typically connected to VREF.", 10 ~{SHDN} (in) "Shutdown. When LOW, the device enters a very low-power shutdown mode.", 11 VREF (in) "Voltage Reference Input. See the Electrical Characteristics Table for ranges.", 12 VCC+ (power) "Power Supply, 2.7V to 5.25V", 13 GND (power) "Ground", 14 GND (power) "Ground", 15 DOUT (hiz) "Serial Data Output. Data is shifted on the falling edge of DCLK. This output is high impedance when C\S\ is HIGH.", 16 BUSY (hiz) "Busy Output. Busy goes LOW when the DIN control bits are being read and also when the device is converting. The Output is high impedance when C\S\ is HIGH.", 17 DIN (in) "Serial Data Input. If C\S\ is LOW, data is latched on rising edge of DCLK.", 18 ~{CS} (in) "Chip Select Input; Active LOW. Data will not be clocked into DIN unless C\S\ is LOW. When C\S\ is HIGH, DOUT is high impedance.", 19 DCLK (in) "External Clock Input. The clock speed determines the conversion rate by the equation fDCLK = 24 x fSAMPLE.", 20 VCC+ (power) "Power Supply"

## ADS8345E/2K5G4
designator U?
16-Bit, 8-Channel Serial Output Sampling ADC, -40 to 85 degC, 20-pin SOP (DBQ20), Green (RoHS & no Sb/Br); Manufacturer: Texas Instruments; PartNumber: ADS8345E/2K5G4; # Input Channels: 8; Analog Voltage AV/DD(Max)(V): 5.25; Analog Voltage AV/DD(Min)(V): 2.7; Architecture: SAR; ENOB(Bits): 14; Interface: Serial SPI; Resolution(Bits): 16; Sample Rate (max)(SPS): 100k; SFDR(dB): 95; SINAD(dB): 85; SNR(dB): 81; SubFamily: Precision ADC (<=10MSPS); DatasheetVersion: SBAS177C; PackageVersion: 4073301-3/H, 10/2008; PackageReference: DBQ20; PackageDescription: 20-Pin Plastic Small Outline, Body 8.65 x 3.9 mm, Pitch 0.635 mm; Supplier 1: Digi-Key; Supplier Part Number 1: ADS7817EC/2K5-ND; Digital Supply(Max)(V): 5.25; Digital Supply(Min)(V): 2.7; Eco-Plan: Green (RoHS & no Sb/Br); INL(Max)(+/-LSB): 8; Mounting Technology: Surface Mount; Code_JEDEC: MO-137; ComponentLink1Description: Manufacturer URL; ComponentLink1URL: http://www.ti.com/; ComponentLink2Description: Datasheet; ComponentLink2URL: http://www.ti.com/general/docs/lit/getliterature.tsp?genericPartNumber=ADS8345&fileType=pdf; ComponentLink3Description: Package Specification; ComponentLink3URL: http://www.ti.com/litv/pdf/mpds210a
footprint TI-DBQ20_N (SOP, 20-Leads, Body 8.65x3.9mm, Pitch 0.635mm, IPC Medium Density)
footprint TI-DBQ20_L (SOP, 20-Leads, Body 8.65x3.9mm, Pitch 0.635mm, IPC High Density)
footprint TI-DBQ20_M (SOP, 20-Leads, Body 8.65x3.9mm, Pitch 0.635mm, IPC Low Density)
pins: 1 CH0 (in) "Analog Input Channel 0", 2 CH1 (in) "Analog Input Channel 1", 3 CH2 (in) "Analog Input Channel 2", 4 CH3 (in) "Analog Input Channel 3", 5 CH4 (in) "Analog Input Channel 4", 6 CH5 (in) "Analog Input Channel 5", 7 CH6 (in) "Analog Input Channel 6", 8 CH7 (in) "Analog Input Channel 7", 9 COM (in) "Common reference for analog inputs. This pin is typically connected to VREF.", 10 ~{SHDN} (in) "Shutdown. When LOW, the device enters a very low-power shutdown mode.", 11 VREF (in) "Voltage Reference Input. See the Electrical Characteristics Table for ranges.", 12 VCC+ (power) "Power Supply, 2.7V to 5.25V", 13 GND (power) "Ground", 14 GND (power) "Ground", 15 DOUT (hiz) "Serial Data Output. Data is shifted on the falling edge of DCLK. This output is high impedance when C\S\ is HIGH.", 16 BUSY (hiz) "Busy Output. Busy goes LOW when the DIN control bits are being read and also when the device is converting. The Output is high impedance when C\S\ is HIGH.", 17 DIN (in) "Serial Data Input. If C\S\ is LOW, data is latched on rising edge of DCLK.", 18 ~{CS} (in) "Chip Select Input; Active LOW. Data will not be clocked into DIN unless C\S\ is LOW. When C\S\ is HIGH, DOUT is high impedance.", 19 DCLK (in) "External Clock Input. The clock speed determines the conversion rate by the equation fDCLK = 24 x fSAMPLE.", 20 VCC+ (power) "Power Supply"

## ADS8345EB
designator U?
16-Bit, 8-Channel Serial Output Sampling ADC, -40 to 85 degC, 20-pin SOP (DBQ20), Green (RoHS & no Sb/Br); Manufacturer: Texas Instruments; PartNumber: ADS8345EB; # Input Channels: 8; Analog Voltage AV/DD(Max)(V): 5.25; Analog Voltage AV/DD(Min)(V): 2.7; Architecture: SAR; ENOB(Bits): 15; INL(Max)(+/-LSB): 6; Interface: Serial SPI; Resolution(Bits): 16; Sample Rate (max)(SPS): 100k; SFDR(dB): 95; SINAD(dB): 85; SNR(dB): 81; SubFamily: Precision ADC (<=10MSPS); DatasheetVersion: SBAS177C; PackageVersion: 4073301-3/H, 10/2008; PackageReference: DBQ20; PackageDescription: 20-Pin Plastic Small Outline, Body 8.65 x 3.9 mm, Pitch 0.635 mm; Supplier 1: Digi-Key; Supplier Part Number 1: ADS7817EC/2K5G4-ND; Digital Supply(Max)(V): 5.25; Digital Supply(Min)(V): 2.7; Eco-Plan: Green (RoHS & no Sb/Br); Mounting Technology: Surface Mount; Code_JEDEC: MO-137; ComponentLink1Description: Manufacturer URL; ComponentLink1URL: http://www.ti.com/; ComponentLink2Description: Datasheet; ComponentLink2URL: http://www.ti.com/general/docs/lit/getliterature.tsp?genericPartNumber=ADS8345&fileType=pdf; ComponentLink3Description: Package Specification; ComponentLink3URL: http://www.ti.com/litv/pdf/mpds210a
footprint TI-DBQ20_N (SOP, 20-Leads, Body 8.65x3.9mm, Pitch 0.635mm, IPC Medium Density)
footprint TI-DBQ20_L (SOP, 20-Leads, Body 8.65x3.9mm, Pitch 0.635mm, IPC High Density)
footprint TI-DBQ20_M (SOP, 20-Leads, Body 8.65x3.9mm, Pitch 0.635mm, IPC Low Density)
pins: 1 CH0 (in) "Analog Input Channel 0", 2 CH1 (in) "Analog Input Channel 1", 3 CH2 (in) "Analog Input Channel 2", 4 CH3 (in) "Analog Input Channel 3", 5 CH4 (in) "Analog Input Channel 4", 6 CH5 (in) "Analog Input Channel 5", 7 CH6 (in) "Analog Input Channel 6", 8 CH7 (in) "Analog Input Channel 7", 9 COM (in) "Common reference for analog inputs. This pin is typically connected to VREF.", 10 ~{SHDN} (in) "Shutdown. When LOW, the device enters a very low-power shutdown mode.", 11 VREF (in) "Voltage Reference Input. See the Electrical Characteristics Table for ranges.", 12 VCC+ (power) "Power Supply, 2.7V to 5.25V", 13 GND (power) "Ground", 14 GND (power) "Ground", 15 DOUT (hiz) "Serial Data Output. Data is shifted on the falling edge of DCLK. This output is high impedance when C\S\ is HIGH.", 16 BUSY (hiz) "Busy Output. Busy goes LOW when the DIN control bits are being read and also when the device is converting. The Output is high impedance when C\S\ is HIGH.", 17 DIN (in) "Serial Data Input. If C\S\ is LOW, data is latched on rising edge of DCLK.", 18 ~{CS} (in) "Chip Select Input; Active LOW. Data will not be clocked into DIN unless C\S\ is LOW. When C\S\ is HIGH, DOUT is high impedance.", 19 DCLK (in) "External Clock Input. The clock speed determines the conversion rate by the equation fDCLK = 24 x fSAMPLE.", 20 VCC+ (power) "Power Supply"

## ADS8345EBE4
designator U?
16-Bit, 8-Channel Serial Output Sampling ADC, -40 to 85 degC, 20-pin SOP (DBQ20), Green (RoHS & no Sb/Br); Manufacturer: Texas Instruments; PartNumber: ADS8345EBE4; # Input Channels: 8; Analog Voltage AV/DD(Max)(V): 5.25; Analog Voltage AV/DD(Min)(V): 2.7; Architecture: SAR; ENOB(Bits): 15; INL(Max)(+/-LSB): 6; Interface: Serial SPI; Resolution(Bits): 16; Sample Rate (max)(SPS): 100k; SFDR(dB): 95; SINAD(dB): 85; SNR(dB): 81; SubFamily: Precision ADC (<=10MSPS); DatasheetVersion: SBAS177C; PackageVersion: 4073301-3/H, 10/2008; PackageReference: DBQ20; PackageDescription: 20-Pin Plastic Small Outline, Body 8.65 x 3.9 mm, Pitch 0.635 mm; Supplier 1: Digi-Key; Supplier Part Number 1: ADS7817U-ND; Digital Supply(Max)(V): 5.25; Digital Supply(Min)(V): 2.7; Eco-Plan: Green (RoHS & no Sb/Br); Mounting Technology: Surface Mount; Code_JEDEC: MO-137; ComponentLink1Description: Manufacturer URL; ComponentLink1URL: http://www.ti.com/; ComponentLink2Description: Datasheet; ComponentLink2URL: http://www.ti.com/general/docs/lit/getliterature.tsp?genericPartNumber=ADS8345&fileType=pdf; ComponentLink3Description: Package Specification; ComponentLink3URL: http://www.ti.com/litv/pdf/mpds210a
footprint TI-DBQ20_N (SOP, 20-Leads, Body 8.65x3.9mm, Pitch 0.635mm, IPC Medium Density)
footprint TI-DBQ20_L (SOP, 20-Leads, Body 8.65x3.9mm, Pitch 0.635mm, IPC High Density)
footprint TI-DBQ20_M (SOP, 20-Leads, Body 8.65x3.9mm, Pitch 0.635mm, IPC Low Density)
pins: 1 CH0 (in) "Analog Input Channel 0", 2 CH1 (in) "Analog Input Channel 1", 3 CH2 (in) "Analog Input Channel 2", 4 CH3 (in) "Analog Input Channel 3", 5 CH4 (in) "Analog Input Channel 4", 6 CH5 (in) "Analog Input Channel 5", 7 CH6 (in) "Analog Input Channel 6", 8 CH7 (in) "Analog Input Channel 7", 9 COM (in) "Common reference for analog inputs. This pin is typically connected to VREF.", 10 ~{SHDN} (in) "Shutdown. When LOW, the device enters a very low-power shutdown mode.", 11 VREF (in) "Voltage Reference Input. See the Electrical Characteristics Table for ranges.", 12 VCC+ (power) "Power Supply, 2.7V to 5.25V", 13 GND (power) "Ground", 14 GND (power) "Ground", 15 DOUT (hiz) "Serial Data Output. Data is shifted on the falling edge of DCLK. This output is high impedance when C\S\ is HIGH.", 16 BUSY (hiz) "Busy Output. Busy goes LOW when the DIN control bits are being read and also when the device is converting. The Output is high impedance when C\S\ is HIGH.", 17 DIN (in) "Serial Data Input. If C\S\ is LOW, data is latched on rising edge of DCLK.", 18 ~{CS} (in) "Chip Select Input; Active LOW. Data will not be clocked into DIN unless C\S\ is LOW. When C\S\ is HIGH, DOUT is high impedance.", 19 DCLK (in) "External Clock Input. The clock speed determines the conversion rate by the equation fDCLK = 24 x fSAMPLE.", 20 VCC+ (power) "Power Supply"

## ADS8345EE4
designator U?
16-Bit, 8-Channel Serial Output Sampling ADC, -40 to 85 degC, 20-pin SOP (DBQ20), Green (RoHS & no Sb/Br); Manufacturer: Texas Instruments; PartNumber: ADS8345EE4; # Input Channels: 8; Analog Voltage AV/DD(Max)(V): 5.25; Analog Voltage AV/DD(Min)(V): 2.7; Architecture: SAR; ENOB(Bits): 14; Interface: Serial SPI; Resolution(Bits): 16; Sample Rate (max)(SPS): 100k; SFDR(dB): 95; SINAD(dB): 85; SNR(dB): 81; SubFamily: Precision ADC (<=10MSPS); DatasheetVersion: SBAS177C; PackageVersion: 4073301-3/H, 10/2008; PackageReference: DBQ20; PackageDescription: 20-Pin Plastic Small Outline, Body 8.65 x 3.9 mm, Pitch 0.635 mm; Supplier 1: Digi-Key; Supplier Part Number 1: ADS7817U/2K5-ND; Digital Supply(Max)(V): 5.25; Digital Supply(Min)(V): 2.7; Eco-Plan: Green (RoHS & no Sb/Br); INL(Max)(+/-LSB): 8; Mounting Technology: Surface Mount; Code_JEDEC: MO-137; ComponentLink1Description: Manufacturer URL; ComponentLink1URL: http://www.ti.com/; ComponentLink2Description: Datasheet; ComponentLink2URL: http://www.ti.com/general/docs/lit/getliterature.tsp?genericPartNumber=ADS8345&fileType=pdf; ComponentLink3Description: Package Specification; ComponentLink3URL: http://www.ti.com/litv/pdf/mpds210a
footprint TI-DBQ20_N (SOP, 20-Leads, Body 8.65x3.9mm, Pitch 0.635mm, IPC Medium Density)
footprint TI-DBQ20_L (SOP, 20-Leads, Body 8.65x3.9mm, Pitch 0.635mm, IPC High Density)
footprint TI-DBQ20_M (SOP, 20-Leads, Body 8.65x3.9mm, Pitch 0.635mm, IPC Low Density)
pins: 1 CH0 (in) "Analog Input Channel 0", 2 CH1 (in) "Analog Input Channel 1", 3 CH2 (in) "Analog Input Channel 2", 4 CH3 (in) "Analog Input Channel 3", 5 CH4 (in) "Analog Input Channel 4", 6 CH5 (in) "Analog Input Channel 5", 7 CH6 (in) "Analog Input Channel 6", 8 CH7 (in) "Analog Input Channel 7", 9 COM (in) "Common reference for analog inputs. This pin is typically connected to VREF.", 10 ~{SHDN} (in) "Shutdown. When LOW, the device enters a very low-power shutdown mode.", 11 VREF (in) "Voltage Reference Input. See the Electrical Characteristics Table for ranges.", 12 VCC+ (power) "Power Supply, 2.7V to 5.25V", 13 GND (power) "Ground", 14 GND (power) "Ground", 15 DOUT (hiz) "Serial Data Output. Data is shifted on the falling edge of DCLK. This output is high impedance when C\S\ is HIGH.", 16 BUSY (hiz) "Busy Output. Busy goes LOW when the DIN control bits are being read and also when the device is converting. The Output is high impedance when C\S\ is HIGH.", 17 DIN (in) "Serial Data Input. If C\S\ is LOW, data is latched on rising edge of DCLK.", 18 ~{CS} (in) "Chip Select Input; Active LOW. Data will not be clocked into DIN unless C\S\ is LOW. When C\S\ is HIGH, DOUT is high impedance.", 19 DCLK (in) "External Clock Input. The clock speed determines the conversion rate by the equation fDCLK = 24 x fSAMPLE.", 20 VCC+ (power) "Power Supply"

## ADS8345N
designator U?
16-Bit, 8-Channel Serial Output Sampling ADC, -40 to 85 degC, 20-pin SOP (DB20), Green (RoHS & no Sb/Br); Manufacturer: Texas Instruments; PartNumber: ADS8345N; # Input Channels: 8; Analog Voltage AV/DD(Max)(V): 5.25; Analog Voltage AV/DD(Min)(V): 2.7; Architecture: SAR; Interface: Serial SPI; Resolution(Bits): 16; Sample Rate (max)(SPS): 100k; SFDR(dB): 98; SINAD(dB): 85; SubFamily: Precision ADC (<=10MSPS); DatasheetVersion: SBAS177C; PackageVersion: 4040065/E, 12/2001; PackageReference: DB20; PackageDescription: 20-Pin Plastic Small Outline, Body 5.3 x 7.2 mm, Pitch 0.65 mm; Supplier 1: Digi-Key; Supplier Part Number 1: ADS7817U/2K5G4-ND; Digital Supply(Max)(V): 5.25; Digital Supply(Min)(V): 2.7; Eco-Plan: Green (RoHS & no Sb/Br); INL(Max)(+/-LSB): 8; Mounting Technology: Surface Mount; Code_JEDEC: MO-150; ComponentLink1Description: Manufacturer URL; ComponentLink1URL: http://www.ti.com/; ComponentLink2Description: Datasheet; ComponentLink2URL: http://www.ti.com/general/docs/lit/getliterature.tsp?genericPartNumber=ADS8345&fileType=pdf; ComponentLink3Description: Package Specification; ComponentLink3URL: http://www.ti.com/lit/ml/msso002e/msso002e.pdf
footprint TI-DB20_N (SOP, 20-Leads, Body 7.2x5.3mm, Pitch 0.65mm, IPC Medium Density)
footprint TI-DB20_L (SOP, 20-Leads, Body 7.2x5.3mm, Pitch 0.65mm, IPC High Density)
footprint TI-DB20_M (SOP, 20-Leads, Body 7.2x5.3mm, Pitch 0.65mm, IPC Low Density)
pins: 1 CH0 (in) "Analog Input Channel 0", 2 CH1 (in) "Analog Input Channel 1", 3 CH2 (in) "Analog Input Channel 2", 4 CH3 (in) "Analog Input Channel 3", 5 CH4 (in) "Analog Input Channel 4", 6 CH5 (in) "Analog Input Channel 5", 7 CH6 (in) "Analog Input Channel 6", 8 CH7 (in) "Analog Input Channel 7", 9 COM (in) "Common reference for analog inputs. This pin is typically connected to VREF.", 10 ~{SHDN} (in) "Shutdown. When LOW, the device enters a very low-power shutdown mode.", 11 VREF (in) "Voltage Reference Input. See the Electrical Characteristics Table for ranges.", 12 VCC+ (power) "Power Supply, 2.7V to 5.25V", 13 GND (power) "Ground", 14 GND (power) "Ground", 15 DOUT (hiz) "Serial Data Output. Data is shifted on the falling edge of DCLK. This output is high impedance when C\S\ is HIGH.", 16 BUSY (hiz) "Busy Output. Busy goes LOW when the DIN control bits are being read and also when the device is converting. The Output is high impedance when C\S\ is HIGH.", 17 DIN (in) "Serial Data Input. If C\S\ is LOW, data is latched on rising edge of DCLK.", 18 ~{CS} (in) "Chip Select Input; Active LOW. Data will not be clocked into DIN unless C\S\ is LOW. When C\S\ is HIGH, DOUT is high impedance.", 19 DCLK (in) "External Clock Input. The clock speed determines the conversion rate by the equation fDCLK = 24 x fSAMPLE.", 20 VCC+ (power) "Power Supply"